# EAGLE library part TPS563200DDC (library EE445L)
TPS563200 4.5-V To 17-V Input, 2-A, 3-A Synchronous Step-Down Voltage Regulator In 6 Pin SOT-23
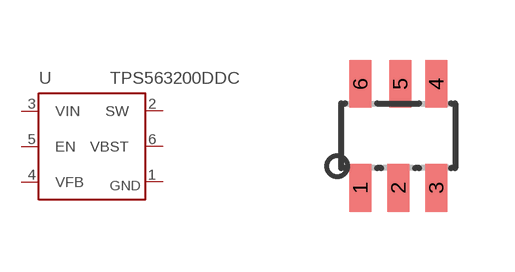
[diagram p40: symbol with the pads of SOT_6; footprint SOT_6]

Designator prefix -

## TPS563200DDC  [SOT_6]
1  GND  pwr
2  SW  out
3  VIN  pwr
4  VFB  in
5  EN  in
6  VBST  in

## Footprint SOT_6 (pad centres in mm)
DDC (R-PDSO-G6)
smd 0.55 x 1.2: 1 -0.95,-1.3; 2 0,-1.3; 3 0.95,-1.3; 4 0.95,1.3; 5 0.05,1.3; 6 -0.95,1.3